# Altium footprint library PCB - SWITCH - NIDEC COPAL CF-LD-1DC6-AR2W.PcbLib: 1 footprints
Each footprint in its own frame and in the unit in brackets; x right, y up, seen from the top. Pads: shape width x height; smd on the part's side, far side on the other; paste and mask are expansions set on the pad; w line width, h text height; cw(c..) or ccw(c..) is an arc to the next point about the centre after c.
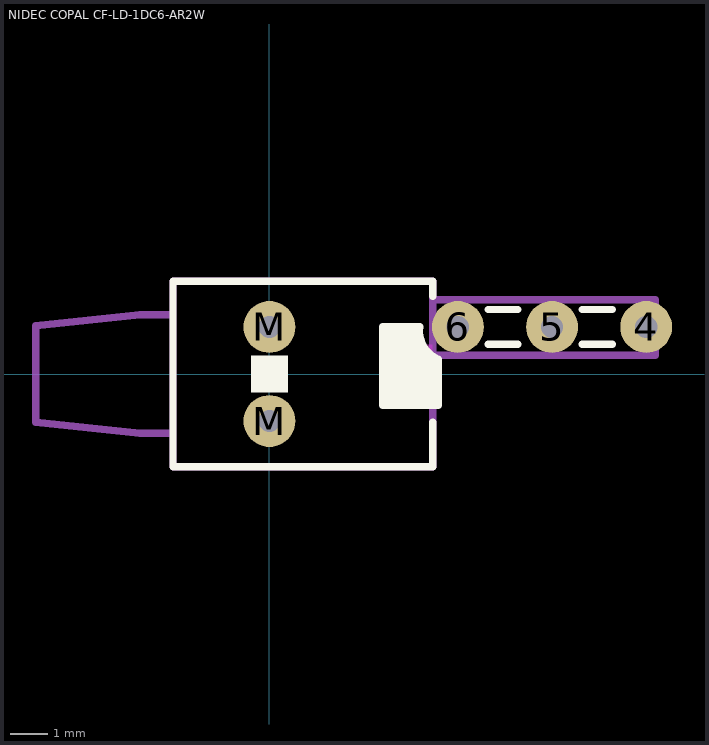
[diagram p0: the footprint, top view; thin cyan lines are the x and y axes]

## NIDEC COPAL CF-LD-1DC6-AR2W [mm] "Hyper-Miniature Lever Switches"
height 7.9
pads (5):
  round 1.4 hole 0.6 paste-2 mask+0: 4(10.16,1.27) 5(7.62,1.27) 6(5.08,1.27) M(0,-1.27) M(0,1.27)
Top Layer keep-out:
  rectangle: 3.4,-0.7 4.4,0.8
Top Overlay:
  rectangle: -0.5,-0.5 0.5,0.5
  region: 3.05,-0.85 4.55,-0.85 4.55,0.4 4.43,0.463 4.228,0.644 4.094,0.879 4.043,1.145 4.05,1.28 3.05,1.28
  lines w0.2: 4.4,-1.3 4.4,-2.5 -2.6,-2.5 -2.6,2.5 4.4,2.5 4.4,2.1 ; 5.9,0.8 6.7,0.8 ; 5.9,1.74 6.7,1.74 ; 8.44,0.8 9.24,0.8 ; 8.44,1.74 9.24,1.74 ; 3.05,-0.85 4.55,-0.85 4.55,0.4 cw(c4.88,1.17) 4.05,1.28 3.05,1.28 3.05,-0.85
Top Component Outline:
  lines w0.2: -2.6,-1.6 -3.5,-1.6 -6.3,-1.3 -6.3,0 -6.3,1.3 -3.5,1.6 -2.6,1.6 ; 4.4,0.5 10.4,0.5 10.4,2 4.4,2 ; -2.6,-2.5 -2.6,2.5 4.4,2.5 4.4,-2.5 -2.6,-2.5
3D body "Nidec Copal - CF-LD-1DC6-AR2W.STEP": height 7.9, standoff -3.75, extent -6.269,-2.5 10.385,2.5